# Altium footprint library Dual-In-Line Package.PcbLib: 133 footprints (part 6 of 9)
Each footprint in its own frame and in the unit in brackets; x right, y up, seen from the top. Pads: shape width x height; smd on the part's side, far side on the other; paste and mask are expansions set on the pad; w line width, h text height; cw(c..) or ccw(c..) is an arc to the next point about the centre after c.
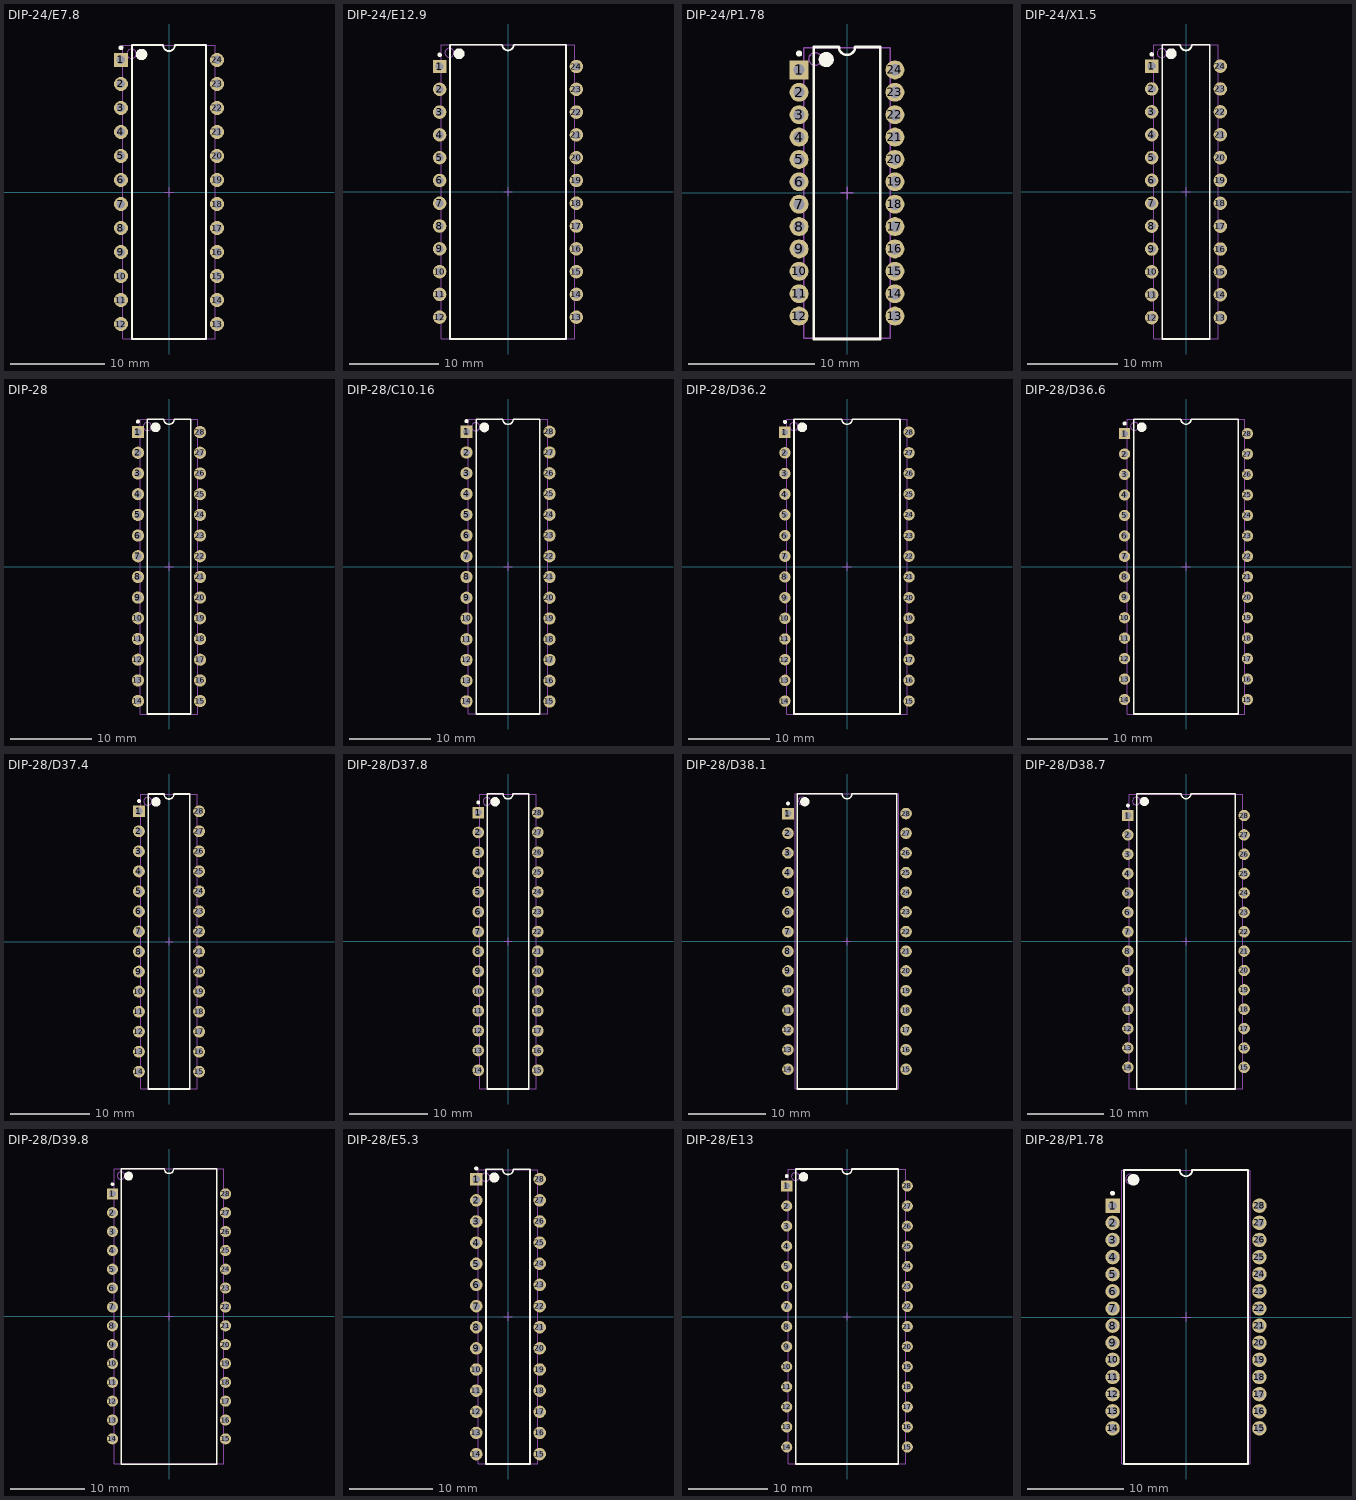
[diagram p5: the footprints below, top view; thin cyan lines are the x and y axes]

## DIP-24/E7.8 [mm] "DIP, 24-Pin, Row Spacing 10.16 mm, Pitch 2.54 mm"
height 5.08
pads (24):
  rect 1.5x1.5 hole 0.9: 1(-5.08,13.97)
  round 1.5 hole 0.9: 2(-5.08,11.43) 3(-5.08,8.89) 4(-5.08,6.35) 5(-5.08,3.81) 6(-5.08,1.27) 7(-5.08,-1.27) 8(-5.08,-3.81) 9(-5.08,-6.35) 10(-5.08,-8.89) 11(-5.08,-11.43) 12(-5.08,-13.97) 13(5.08,-13.97) 14(5.08,-11.43) 15(5.08,-8.89) 16(5.08,-6.35) 17(5.08,-3.81) 18(5.08,-1.27) 19(5.08,1.27) 20(5.08,3.81) 21(5.08,6.35) 22(5.08,8.89) 23(5.08,11.43) 24(5.08,13.97)
Top Overlay:
  circle w0.6: c-2.9,14.55 r0.3
  circle w0.25: c-5.08,15.27 r0.125
  lines w0.2: -3.9,-15.55 3.9,-15.55 3.9,15.55 0.635,15.55 cw(c0,15.55) -0.635,15.55 -3.9,15.55 -3.9,-15.55
Mechanical 13:
  circle w0.1: c-3.975,14.625 r0.5
  lines w0.1: -4.875,-15.525 4.875,-15.525 4.875,15.525 -4.875,15.525 -4.875,-15.525
Mechanical 15:
  lines w0.1: -0.5,0 0.5,0 ; 0,-0.5 0,0.5
3D body: height 5.08, standoff 0, extent -4.875,-15.525 4.875,15.525

## DIP-24/E12.9 [mm] "DIP, 24-Pin, Row Spacing 15.24 mm, Pitch 2.54 mm"
height 5.08
pads (24):
  rect 1.5x1.5 hole 0.9: 1(-7.62,13.97)
  round 1.5 hole 0.9: 2(-7.62,11.43) 3(-7.62,8.89) 4(-7.62,6.35) 5(-7.62,3.81) 6(-7.62,1.27) 7(-7.62,-1.27) 8(-7.62,-3.81) 9(-7.62,-6.35) 10(-7.62,-8.89) 11(-7.62,-11.43) 12(-7.62,-13.97) 13(7.62,-13.97) 14(7.62,-11.43) 15(7.62,-8.89) 16(7.62,-6.35) 17(7.62,-3.81) 18(7.62,-1.27) 19(7.62,1.27) 20(7.62,3.81) 21(7.62,6.35) 22(7.62,8.89) 23(7.62,11.43) 24(7.62,13.97)
Top Overlay:
  circle w0.6: c-5.45,15.4 r0.3
  circle w0.25: c-7.62,15.27 r0.125
  lines w0.2: -6.45,-16.4 6.45,-16.4 6.45,16.4 0.635,16.4 cw(c0,16.4) -0.635,16.4 -6.45,16.4 -6.45,-16.4
Mechanical 13:
  circle w0.1: c-6.525,15.5 r0.5
  lines w0.1: -7.425,-16.4 7.425,-16.4 7.425,16.4 -7.425,16.4 -7.425,-16.4
Mechanical 15:
  lines w0.1: -0.5,0 0.5,0 ; 0,-0.5 0,0.5
3D body: height 5.08, standoff 0, extent -7.425,-16.4 7.425,16.4

## DIP-24/P1.78 [mm] "DIP, Plastic Shrink, 24-Pin, Row Spacing 7.62 mm, Pitch 1.778 mm"
height 5.08
pads (24):
  rect 1.5x1.5 hole 0.9: 1(-3.81,9.779)
  round 1.5 hole 0.9: 2(-3.81,8.001) 3(-3.81,6.223) 4(-3.81,4.445) 5(-3.81,2.667) 6(-3.81,0.889) 7(-3.81,-0.889) 8(-3.81,-2.667) 9(-3.81,-4.445) 10(-3.81,-6.223) 11(-3.81,-8.001) 12(-3.81,-9.779) 13(3.81,-9.779) 14(3.81,-8.001) 15(3.81,-6.223) 16(3.81,-4.445) 17(3.81,-2.667) 18(3.81,-0.889) 19(3.81,0.889) 20(3.81,2.667) 21(3.81,4.445) 22(3.81,6.223) 23(3.81,8.001) 24(3.81,9.779)
Top Overlay:
  circle w0.6: c-1.65,10.6 r0.3
  circle w0.25: c-3.81,11.079 r0.125
  lines w0.2: -2.65,-11.6 2.65,-11.6 2.65,11.6 0.635,11.6 cw(c0,11.6) -0.635,11.6 -2.65,11.6 -2.65,-11.6
Mechanical 13:
  circle w0.1: c-2.525,10.65 r0.5
  lines w0.1: -3.425,-11.55 3.425,-11.55 3.425,11.55 -3.425,11.55 -3.425,-11.55
Mechanical 15:
  lines w0.1: -0.5,0 0.5,0 ; 0,-0.5 0,0.5
3D body: height 5.08, standoff 0, extent -3.425,-11.55 3.425,11.55

## DIP-24/X1.5 [mm] "DIP, 24-Pin, Row Spacing 7.62 mm, Pitch 2.54 mm"
height 5.33
pads (24):
  rect 1.5x1.5 hole 0.9: 1(-3.81,13.97)
  round 1.5 hole 0.9: 2(-3.81,11.43) 3(-3.81,8.89) 4(-3.81,6.35) 5(-3.81,3.81) 6(-3.81,1.27) 7(-3.81,-1.27) 8(-3.81,-3.81) 9(-3.81,-6.35) 10(-3.81,-8.89) 11(-3.81,-11.43) 12(-3.81,-13.97) 13(3.81,-13.97) 14(3.81,-11.43) 15(3.81,-8.89) 16(3.81,-6.35) 17(3.81,-3.81) 18(3.81,-1.27) 19(3.81,1.27) 20(3.81,3.81) 21(3.81,6.35) 22(3.81,8.89) 23(3.81,11.43) 24(3.81,13.97)
Top Overlay:
  circle w0.6: c-1.65,15.35 r0.3
  circle w0.25: c-3.81,15.27 r0.125
  lines w0.2: -2.65,-16.35 2.65,-16.35 2.65,16.35 0.635,16.35 cw(c0,16.35) -0.635,16.35 -2.65,16.35 -2.65,-16.35
Mechanical 13:
  circle w0.1: c-2.7,15.425 r0.5
  lines w0.1: -3.6,-16.325 3.6,-16.325 3.6,16.325 -3.6,16.325 -3.6,-16.325
Mechanical 15:
  lines w0.1: -0.5,0 0.5,0 ; 0,-0.5 0,0.5
3D body: height 5.33, standoff 0, extent -3.6,-16.325 3.6,16.325

## DIP-28 [mm] "DIP, 28-Pin, Row Spacing 7.62 mm, Pitch 2.54 mm"
height 5.33
pads (28):
  rect 1.5x1.5 hole 0.9: 1(-3.81,16.51)
  round 1.5 hole 0.9: 2(-3.81,13.97) 3(-3.81,11.43) 4(-3.81,8.89) 5(-3.81,6.35) 6(-3.81,3.81) 7(-3.81,1.27) 8(-3.81,-1.27) 9(-3.81,-3.81) 10(-3.81,-6.35) 11(-3.81,-8.89) 12(-3.81,-11.43) 13(-3.81,-13.97) 14(-3.81,-16.51) 15(3.81,-16.51) 16(3.81,-13.97) 17(3.81,-11.43) 18(3.81,-8.89) 19(3.81,-6.35) 20(3.81,-3.81) 21(3.81,-1.27) 22(3.81,1.27) 23(3.81,3.81) 24(3.81,6.35) 25(3.81,8.89) 26(3.81,11.43) 27(3.81,13.97) 28(3.81,16.51)
Top Overlay:
  circle w0.6: c-1.65,17.1 r0.3
  circle w0.25: c-3.81,17.81 r0.125
  lines w0.2: -2.65,-18.1 2.65,-18.1 2.65,18.1 0.635,18.1 cw(c0,18.1) -0.635,18.1 -2.65,18.1 -2.65,-18.1
Mechanical 13:
  circle w0.1: c-2.65,17.2 r0.5
  lines w0.1: -3.55,-18.1 3.55,-18.1 3.55,18.1 -3.55,18.1 -3.55,-18.1
Mechanical 15:
  lines w0.1: -0.5,0 0.5,0 ; 0,-0.5 0,0.5
3D body: height 5.33, standoff 0, extent -3.55,-18.1 3.55,18.1

## DIP-28/C10.16 [mm] "DIP, Plastic, 28-Pin, Row Spacing 10.16 mm, Pitch 2.54 mm"
height 5.34
pads (28):
  rect 1.5x1.5 hole 0.9: 1(-5.08,16.51)
  round 1.5 hole 0.9: 2(-5.08,13.97) 3(-5.08,11.43) 4(-5.08,8.89) 5(-5.08,6.35) 6(-5.08,3.81) 7(-5.08,1.27) 8(-5.08,-1.27) 9(-5.08,-3.81) 10(-5.08,-6.35) 11(-5.08,-8.89) 12(-5.08,-11.43) 13(-5.08,-13.97) 14(-5.08,-16.51) 15(5.08,-16.51) 16(5.08,-13.97) 17(5.08,-11.43) 18(5.08,-8.89) 19(5.08,-6.35) 20(5.08,-3.81) 21(5.08,-1.27) 22(5.08,1.27) 23(5.08,3.81) 24(5.08,6.35) 25(5.08,8.89) 26(5.08,11.43) 27(5.08,13.97) 28(5.08,16.51)
Top Overlay:
  circle w0.6: c-2.9,17.05 r0.3
  circle w0.25: c-5.08,17.81 r0.125
  lines w0.2: -3.9,-18.05 3.9,-18.05 3.9,18.05 0.635,18.05 cw(c0,18.05) -0.635,18.05 -3.9,18.05 -3.9,-18.05
Mechanical 13:
  circle w0.1: c-3.975,17.125 r0.5
  lines w0.1: -4.875,-18.025 4.875,-18.025 4.875,18.025 -4.875,18.025 -4.875,-18.025
Mechanical 15:
  lines w0.1: -0.5,0 0.5,0 ; 0,-0.5 0,0.5
3D body: height 5.34, standoff 0, extent -4.875,-18.025 4.875,18.025

## DIP-28/D36.2 [mm] "DIP, 28-Pin, Row Spacing 15.24 mm, Pitch 2.54 mm"
height 4.5
pads (28):
  rect 1.4x1.4 hole 0.8: 1(-7.62,16.51)
  round 1.4 hole 0.8: 2(-7.62,13.97) 3(-7.62,11.43) 4(-7.62,8.89) 5(-7.62,6.35) 6(-7.62,3.81) 7(-7.62,1.27) 8(-7.62,-1.27) 9(-7.62,-3.81) 10(-7.62,-6.35) 11(-7.62,-8.89) 12(-7.62,-11.43) 13(-7.62,-13.97) 14(-7.62,-16.51) 15(7.62,-16.51) 16(7.62,-13.97) 17(7.62,-11.43) 18(7.62,-8.89) 19(7.62,-6.35) 20(7.62,-3.81) 21(7.62,-1.27) 22(7.62,1.27) 23(7.62,3.81) 24(7.62,6.35) 25(7.62,8.89) 26(7.62,11.43) 27(7.62,13.97) 28(7.62,16.51)
Top Overlay:
  circle w0.6: c-5.5,17.1 r0.3
  circle w0.25: c-7.62,17.76 r0.125
  lines w0.2: -6.5,-18.1 6.5,-18.1 6.5,18.1 0.635,18.1 cw(c0,18.1) -0.635,18.1 -6.5,18.1 -6.5,-18.1
Mechanical 13:
  circle w0.1: c-6.525,17.2 r0.5
  lines w0.1: -7.425,-18.1 7.425,-18.1 7.425,18.1 -7.425,18.1 -7.425,-18.1
Mechanical 15:
  lines w0.1: -0.5,0 0.5,0 ; 0,-0.5 0,0.5
3D body: height 4.5, standoff 0, extent -7.425,-18.1 7.425,18.1

## DIP-28/D36.6 [mm] "DIP, 28-Pin, Row Spacing 15.24 mm, Pitch 2.54 mm"
height 5.7
pads (28):
  rect 1.4x1.4 hole 0.8: 1(-7.62,16.51)
  round 1.4 hole 0.8: 2(-7.62,13.97) 3(-7.62,11.43) 4(-7.62,8.89) 5(-7.62,6.35) 6(-7.62,3.81) 7(-7.62,1.27) 8(-7.62,-1.27) 9(-7.62,-3.81) 10(-7.62,-6.35) 11(-7.62,-8.89) 12(-7.62,-11.43) 13(-7.62,-13.97) 14(-7.62,-16.51) 15(7.62,-16.51) 16(7.62,-13.97) 17(7.62,-11.43) 18(7.62,-8.89) 19(7.62,-6.35) 20(7.62,-3.81) 21(7.62,-1.27) 22(7.62,1.27) 23(7.62,3.81) 24(7.62,6.35) 25(7.62,8.89) 26(7.62,11.43) 27(7.62,13.97) 28(7.62,16.51)
Top Overlay:
  circle w0.6: c-5.5,17.3 r0.3
  circle w0.25: c-7.62,17.76 r0.125
  lines w0.2: -6.5,-18.3 6.5,-18.3 6.5,18.3 0.635,18.3 cw(c0,18.3) -0.635,18.3 -6.5,18.3 -6.5,-18.3
Mechanical 13:
  circle w0.1: c-6.4,17.4 r0.5
  lines w0.1: -7.3,-18.3 7.3,-18.3 7.3,18.3 -7.3,18.3 -7.3,-18.3
Mechanical 15:
  lines w0.1: -0.5,0 0.5,0 ; 0,-0.5 0,0.5
3D body: height 5.7, standoff 0, extent -7.3,-18.3 7.3,18.3

## DIP-28/D37.4 [mm] "28-Pin Ceramic Dual In-Line Package (CerDIP)"
height 5.08
pads (28):
  rect 1.5x1.5 hole 0.9: 1(-3.81,16.51)
  round 1.5 hole 0.9: 2(-3.81,13.97) 3(-3.81,11.43) 4(-3.81,8.89) 5(-3.81,6.35) 6(-3.81,3.81) 7(-3.81,1.27) 8(-3.81,-1.27) 9(-3.81,-3.81) 10(-3.81,-6.35) 11(-3.81,-8.89) 12(-3.81,-11.43) 13(-3.81,-13.97) 14(-3.81,-16.51) 15(3.81,-16.51) 16(3.81,-13.97) 17(3.81,-11.43) 18(3.81,-8.89) 19(3.81,-6.35) 20(3.81,-3.81) 21(3.81,-1.27) 22(3.81,1.27) 23(3.81,3.81) 24(3.81,6.35) 25(3.81,8.89) 26(3.81,11.43) 27(3.81,13.97) 28(3.81,16.51)
Top Overlay:
  circle w0.6: c-1.65,17.7 r0.3
  circle w0.25: c-3.81,17.81 r0.125
  lines w0.2: -2.65,-18.7 2.65,-18.7 2.65,18.7 0.635,18.7 cw(c0,18.7) -0.635,18.7 -2.65,18.7 -2.65,-18.7
Mechanical 13:
  circle w0.1: c-2.7,17.775 r0.5
  lines w0.1: -3.6,-18.675 3.6,-18.675 3.6,18.675 -3.6,18.675 -3.6,-18.675
Mechanical 15:
  lines w0.1: -0.5,0 0.5,0 ; 0,-0.5 0,0.5
3D body: height 5.08, standoff 0, extent -3.6,-18.675 3.6,18.675

## DIP-28/D37.8 [mm] "CerDIP, 28-Pin, Row Spacing 7.62 mm, Pitch 2.54 mm"
height 5.08
pads (28):
  rect 1.5x1.5 hole 0.9: 1(-3.81,16.51)
  round 1.5 hole 0.9: 2(-3.81,13.97) 3(-3.81,11.43) 4(-3.81,8.89) 5(-3.81,6.35) 6(-3.81,3.81) 7(-3.81,1.27) 8(-3.81,-1.27) 9(-3.81,-3.81) 10(-3.81,-6.35) 11(-3.81,-8.89) 12(-3.81,-11.43) 13(-3.81,-13.97) 14(-3.81,-16.51) 15(3.81,-16.51) 16(3.81,-13.97) 17(3.81,-11.43) 18(3.81,-8.89) 19(3.81,-6.35) 20(3.81,-3.81) 21(3.81,-1.27) 22(3.81,1.27) 23(3.81,3.81) 24(3.81,6.35) 25(3.81,8.89) 26(3.81,11.43) 27(3.81,13.97) 28(3.81,16.51)
Top Overlay:
  circle w0.6: c-1.65,17.9 r0.3
  circle w0.25: c-3.81,17.81 r0.125
  lines w0.2: -2.65,-18.9 2.65,-18.9 2.65,18.9 0.635,18.9 cw(c0,18.9) -0.635,18.9 -2.65,18.9 -2.65,-18.9
Mechanical 13:
  circle w0.1: c-2.7,17.95 r0.5
  lines w0.1: -3.6,-18.85 3.6,-18.85 3.6,18.85 -3.6,18.85 -3.6,-18.85
Mechanical 15:
  lines w0.1: -0.5,0 0.5,0 ; 0,-0.5 0,0.5
3D body: height 5.08, standoff 0, extent -3.6,-18.85 3.6,18.85

## DIP-28/D38.1 [mm] "DIP, 28-Pin, Row Spacing 15.24 mm, Pitch 2.54 mm"
height 5.08
pads (28):
  rect 1.5x1.5 hole 0.9: 1(-7.62,16.51)
  round 1.5 hole 0.9: 2(-7.62,13.97) 3(-7.62,11.43) 4(-7.62,8.89) 5(-7.62,6.35) 6(-7.62,3.81) 7(-7.62,1.27) 8(-7.62,-1.27) 9(-7.62,-3.81) 10(-7.62,-6.35) 11(-7.62,-8.89) 12(-7.62,-11.43) 13(-7.62,-13.97) 14(-7.62,-16.51) 15(7.62,-16.51) 16(7.62,-13.97) 17(7.62,-11.43) 18(7.62,-8.89) 19(7.62,-6.35) 20(7.62,-3.81) 21(7.62,-1.27) 22(7.62,1.27) 23(7.62,3.81) 24(7.62,6.35) 25(7.62,8.89) 26(7.62,11.43) 27(7.62,13.97) 28(7.62,16.51)
Top Overlay:
  circle w0.6: c-5.45,18.05 r0.3
  circle w0.25: c-7.62,17.81 r0.125
  lines w0.2: -6.45,-19.05 6.45,-19.05 6.45,19.05 0.635,19.05 cw(c0,19.05) -0.635,19.05 -6.45,19.05 -6.45,-19.05
Mechanical 13:
  circle w0.1: c-5.775,18.15 r0.5
  lines w0.1: -6.675,-19.05 6.675,-19.05 6.675,19.05 -6.675,19.05 -6.675,-19.05
Mechanical 15:
  lines w0.1: -0.5,0 0.5,0 ; 0,-0.5 0,0.5
3D body: height 5.08, standoff 0, extent -6.675,-19.05 6.675,19.05

## DIP-28/D38.7 [mm] "DIP, 28-Pin, Row Spacing 15.24 mm, Pitch 2.54 mm"
height 4.8
pads (28):
  rect 1.5x1.5 hole 0.9: 1(-7.62,16.51)
  round 1.5 hole 0.9: 2(-7.62,13.97) 3(-7.62,11.43) 4(-7.62,8.89) 5(-7.62,6.35) 6(-7.62,3.81) 7(-7.62,1.27) 8(-7.62,-1.27) 9(-7.62,-3.81) 10(-7.62,-6.35) 11(-7.62,-8.89) 12(-7.62,-11.43) 13(-7.62,-13.97) 14(-7.62,-16.51) 15(7.62,-16.51) 16(7.62,-13.97) 17(7.62,-11.43) 18(7.62,-8.89) 19(7.62,-6.35) 20(7.62,-3.81) 21(7.62,-1.27) 22(7.62,1.27) 23(7.62,3.81) 24(7.62,6.35) 25(7.62,8.89) 26(7.62,11.43) 27(7.62,13.97) 28(7.62,16.51)
Top Overlay:
  circle w0.6: c-5.45,18.35 r0.3
  circle w0.25: c-7.62,17.81 r0.125
  lines w0.2: -6.45,-19.35 6.45,-19.35 6.45,19.35 0.635,19.35 cw(c0,19.35) -0.635,19.35 -6.45,19.35 -6.45,-19.35
Mechanical 13:
  circle w0.1: c-6.525,18.4 r0.5
  lines w0.1: -7.425,-19.3 7.425,-19.3 7.425,19.3 -7.425,19.3 -7.425,-19.3
Mechanical 15:
  lines w0.1: -0.5,0 0.5,0 ; 0,-0.5 0,0.5
3D body: height 4.8, standoff 0, extent -7.425,-19.3 7.425,19.3

## DIP-28/D39.8 [mm] "DIP, 28-Pin, Row Spacing 15.24 mm, Pitch 2.54 mm"
height 6.35
pads (28):
  rect 1.5x1.5 hole 0.9: 1(-7.62,16.51)
  round 1.5 hole 0.9: 2(-7.62,13.97) 3(-7.62,11.43) 4(-7.62,8.89) 5(-7.62,6.35) 6(-7.62,3.81) 7(-7.62,1.27) 8(-7.62,-1.27) 9(-7.62,-3.81) 10(-7.62,-6.35) 11(-7.62,-8.89) 12(-7.62,-11.43) 13(-7.62,-13.97) 14(-7.62,-16.51) 15(7.62,-16.51) 16(7.62,-13.97) 17(7.62,-11.43) 18(7.62,-8.89) 19(7.62,-6.35) 20(7.62,-3.81) 21(7.62,-1.27) 22(7.62,1.27) 23(7.62,3.81) 24(7.62,6.35) 25(7.62,8.89) 26(7.62,11.43) 27(7.62,13.97) 28(7.62,16.51)
Top Overlay:
  circle w0.6: c-5.45,18.9 r0.3
  circle w0.25: c-7.62,17.81 r0.125
  lines w0.2: -6.45,-19.9 6.45,-19.9 6.45,19.9 0.635,19.9 cw(c0,19.9) -0.635,19.9 -6.45,19.9 -6.45,-19.9
Mechanical 13:
  circle w0.1: c-6.475,18.975 r0.5
  lines w0.1: -7.375,-19.875 7.375,-19.875 7.375,19.875 -7.375,19.875 -7.375,-19.875
Mechanical 15:
  lines w0.1: -0.5,0 0.5,0 ; 0,-0.5 0,0.5
3D body: height 6.35, standoff 0, extent -7.375,-19.875 7.375,19.875

## DIP-28/E5.3 [mm] "28-Pin Plastic Dual In-Line Package (PDIP)"
height 4.58
pads (28):
  rect 1.5x1.5 hole 0.9: 1(-3.81,16.51)
  round 1.5 hole 0.9: 2(-3.81,13.97) 3(-3.81,11.43) 4(-3.81,8.89) 5(-3.81,6.35) 6(-3.81,3.81) 7(-3.81,1.27) 8(-3.81,-1.27) 9(-3.81,-3.81) 10(-3.81,-6.35) 11(-3.81,-8.89) 12(-3.81,-11.43) 13(-3.81,-13.97) 14(-3.81,-16.51) 15(3.81,-16.51) 16(3.81,-13.97) 17(3.81,-11.43) 18(3.81,-8.89) 19(3.81,-6.35) 20(3.81,-3.81) 21(3.81,-1.27) 22(3.81,1.27) 23(3.81,3.81) 24(3.81,6.35) 25(3.81,8.89) 26(3.81,11.43) 27(3.81,13.97) 28(3.81,16.51)
Top Overlay:
  circle w0.6: c-1.65,16.7 r0.3
  circle w0.25: c-3.81,17.81 r0.125
  lines w0.2: -2.65,-17.7 2.65,-17.7 2.65,17.7 0.635,17.7 cw(c0,17.7) -0.635,17.7 -2.65,17.7 -2.65,-17.7
Mechanical 13:
  circle w0.1: c-2.7,16.75 r0.5
  lines w0.1: -3.6,-17.65 3.6,-17.65 3.6,17.65 -3.6,17.65 -3.6,-17.65
Mechanical 15:
  lines w0.1: -0.5,0 0.5,0 ; 0,-0.5 0,0.5
3D body: height 4.58, standoff 0, extent -3.6,-17.65 3.6,17.65

## DIP-28/E13 [mm] "DIP, 28-Pin, Row Spacing 15.24 mm, Pitch 2.54 mm"
height 7.75
pads (28):
  rect 1.4x1.4 hole 0.8: 1(-7.62,16.51)
  round 1.4 hole 0.8: 2(-7.62,13.97) 3(-7.62,11.43) 4(-7.62,8.89) 5(-7.62,6.35) 6(-7.62,3.81) 7(-7.62,1.27) 8(-7.62,-1.27) 9(-7.62,-3.81) 10(-7.62,-6.35) 11(-7.62,-8.89) 12(-7.62,-11.43) 13(-7.62,-13.97) 14(-7.62,-16.51) 15(7.62,-16.51) 16(7.62,-13.97) 17(7.62,-11.43) 18(7.62,-8.89) 19(7.62,-6.35) 20(7.62,-3.81) 21(7.62,-1.27) 22(7.62,1.27) 23(7.62,3.81) 24(7.62,6.35) 25(7.62,8.89) 26(7.62,11.43) 27(7.62,13.97) 28(7.62,16.51)
Top Overlay:
  circle w0.6: c-5.5,17.65 r0.3
  circle w0.25: c-7.62,17.76 r0.125
  lines w0.2: -6.5,-18.65 6.5,-18.65 6.5,18.65 0.635,18.65 cw(c0,18.65) -0.635,18.65 -6.5,18.65 -6.5,-18.65
Mechanical 13:
  circle w0.1: c-6.525,17.7 r0.5
  lines w0.1: -7.425,-18.6 7.425,-18.6 7.425,18.6 -7.425,18.6 -7.425,-18.6
Mechanical 15:
  lines w0.1: -0.5,0 0.5,0 ; 0,-0.5 0,0.5
3D body: height 7.75, standoff 0, extent -7.425,-18.6 7.425,18.6

## DIP-28/P1.78 [mm] "DIP, 28-Pin, Row Spacing 15.24 mm, Pitch 1.778 mm"
height 5.08
pads (28):
  rect 1.5x1.5 hole 0.9: 1(-7.62,11.557)
  round 1.5 hole 0.9: 2(-7.62,9.779) 3(-7.62,8.001) 4(-7.62,6.223) 5(-7.62,4.445) 6(-7.62,2.667) 7(-7.62,0.889) 8(-7.62,-0.889) 9(-7.62,-2.667) 10(-7.62,-4.445) 11(-7.62,-6.223) 12(-7.62,-8.001) 13(-7.62,-9.779) 14(-7.62,-11.557) 15(7.62,-11.557) 16(7.62,-9.779) 17(7.62,-8.001) 18(7.62,-6.223) 19(7.62,-4.445) 20(7.62,-2.667) 21(7.62,-0.889) 22(7.62,0.889) 23(7.62,2.667) 24(7.62,4.445) 25(7.62,6.223) 26(7.62,8.001) 27(7.62,9.779) 28(7.62,11.557)
Top Overlay:
  circle w0.6: c-5.45,14.25 r0.3
  circle w0.25: c-7.62,12.857 r0.125
  lines w0.2: -6.45,-15.25 6.45,-15.25 6.45,15.25 0.635,15.25 cw(c0,15.25) -0.635,15.25 -6.45,15.25 -6.45,-15.25
Mechanical 13:
  circle w0.1: c-5.775,14.325 r0.5
  lines w0.1: -6.675,-15.225 6.675,-15.225 6.675,15.225 -6.675,15.225 -6.675,-15.225
Mechanical 15:
  lines w0.1: -0.5,0 0.5,0 ; 0,-0.5 0,0.5
3D body: height 5.08, standoff 0, extent -6.675,-15.225 6.675,15.225